# Altium integrated library Inductors-transformers.IntLib: 114 symbols (part 2 of 2)
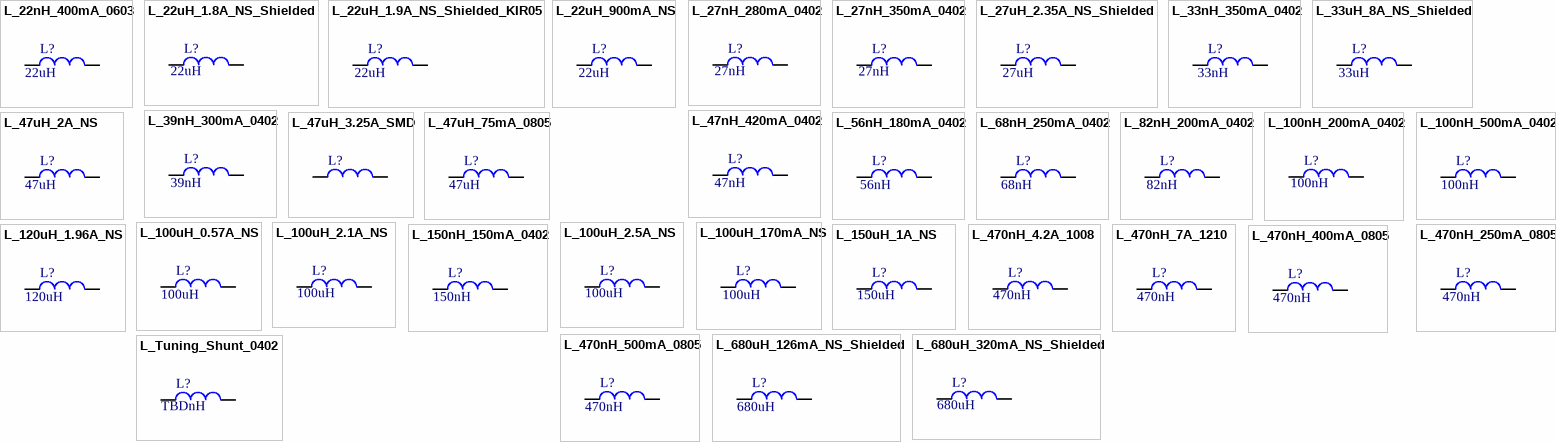
[diagram p3: symbols L_22nH_400mA_0603 to L_Tuning_Shunt_0402]

## L_47uH_75mA_0805
designator L?, comment value 47uH  (hidden comment: 47uH 75mA)
FIXED IND 47UH 75MA 1.7 OHM SMD; Manufacturer: Taiyo Yuden; Manufacturer Part Number: LBR2012T470K; Supplier 1: Digi-Key; Supplier Part Number 1: 587-2047-1-ND; Reel Stock: N/A; Last modified by: J.Jaramillo; Last modified date: 20240310; ComponentLink1Description: Digi-Key; ComponentLink1URL: https://www.digikey.com/products/en?keywords=587-2047-1-ND
footprint 0805 (2012 Metric / 20190225 / C-A.Serna.A)
pins: 1, 2

## L_56nH_180mA_0402
designator L?, comment value 56nH  (hidden comment: 56nH 180mA)
FIXED IND 56NH 180MA 1.8 OHM SMD; Manufacturer: TDK Corporation; Manufacturer Part Number: MHQ1005P56NJT000; Supplier 1: Digi-Key; Supplier Part Number 1: 445-MHQ1005P56NJT000CT-ND; Reel Stock: N/A; Last modified by: J.Jaramillo; Last modified date: 20240310; ComponentLink1Description: Digi-Key; ComponentLink1URL: https://www.digikey.com/en/products/detail/tdk-corporation/MHQ1005P56NJT000/5167831
footprint 0402 (1005 Metric / 20190225 / C-A.Serna.A)
footprint 0402_RF (1005 Metric / 20190225 / C-A.Serna.A)
pins: 1, 2

## L_68nH_250mA_0402
designator L?, comment 68nH
FIXED IND 68NH 250MA 920MOHM SMD; Manufacturer: Murata Electronics; Manufacturer Part Number: LQG15HZ68NH02D; Supplier 1: Digi-Key; Supplier Part Number 1: 490-15172-1-ND; Reel Stock: N/A; Last modified by: J.Jaramillo; Last modified date: 20240310; ComponentLink1Description: Digi-Key; ComponentLink1URL: https://www.digikey.com/en/products/detail/murata-electronics/LQG15HZ68NH02D/6798597; Value: 68nH
footprint 0402 (1005 Metric / 20190225 / C-A.Serna.A)
footprint 0402_RF (1005 Metric / 20190225 / C-A.Serna.A)
pins: 1, 2

## L_82nH_200mA_0402
designator L?, comment value 82nH  (hidden comment: 82nH 200mA)
FIXED IND 82NH 200MA 1.2 OHM SMD; Manufacturer: Murata Electronics North America; Manufacturer Part Number: LQG15HS82NJ02D; Supplier 1: Digi-Key; Supplier Part Number 1: 490-2634-1-ND; Reel Stock: N/A; Last modified by: J.Jaramillo; Last modified date: 20240310; ComponentLink1Description: Digi-Key; ComponentLink1URL: https://www.digikey.com/product-detail/en/murata-electronics-north-america/LQG15HS82NJ02D/490-2634-1-ND/662914
footprint 0402
footprint 0402_RF (0402 footprint for RF tracks with no overlay)
pins: 1, 2

## L_100nH_200mA_0402
designator L?, comment value 100nH  (hidden comment: 100nH 200mA)
FIXED IND 100NH 200MA 1.25 OHM; Manufacturer: Murata Electronics North America; Manufacturer Part Number: LQG15HSR10J02D; Supplier 1: Digi-key; Supplier Part Number 1: 490-2635-1-ND; Last modified by: J.Jaramillo; Last modified date: 20240310; ComponentLink1Description: Digi-key; ComponentLink1URL: https://www.digikey.com/products/en?keywords=490-2635-1-ND; Reel Stock: N/A
footprint 0402_RF
footprint 0402
pins: 1, 2

## L_100nH_500mA_0402
designator L?, comment value 100nH  (hidden comment: 100nH 500mA)
FIXED IND 100NH 500MA 1.25 OHM; Manufacturer: Murata Electronics; Manufacturer Part Number: LQG15HHR10J02D; Supplier 1: Digi-key; Supplier Part Number 1: 490-11670-1-ND; Last modified by: J.Jaramillo; Last modified date: 20240310; ComponentLink1Description: Digi-key; ComponentLink1URL: https://www.digikey.com/products/en?keywords=490-11670-1-ND; Reel Stock: N/A
footprint 0402_RF
footprint 0402
pins: 1, 2

## L_100uH_0.57A_NS
designator L?, comment value 100uH  (hidden comment: 100uH 0.57A)
FIXED IND 100UH 570MA 650MOHM SMD; Manufacturer: Würth Elektronik; Manufacturer Part Number: 74477420; Supplier 1: Digi-Key; Supplier Part Number 1: 732-1278-1-ND; Reel Stock: N/A; Last modified by: J.Jaramillo; Last modified date: 20240310; ComponentLink1Description: Digi-Key; ComponentLink1URL: https://www.digikey.com/en/products/detail/w%C3%BCrth-elektronik/74477420/1638683?s=N4IgTCBcDaIOwBYF0WADCAugXyA
footprint L_2SMD_5.8X5.2MM_NS (20220804/J-E.Pachon)
pins: 1, 2

## L_100uH_2.1A_NS
designator L?, comment value 100uH  (hidden comment: 100uH 2.1A)
FIXED IND 100UH 2.1A 150MOHM SMD; Manufacturer: Bourns Inc.; Manufacturer Part Number: SRR1280-101M; Supplier 1: Digi-Key; Supplier Part Number 1: SRR1280-101MCT-ND; Reel Stock: N/A; Last modified by: J.Jaramillo; Last modified date: 20240310; ComponentLink1Description: Digi-Key; ComponentLink1URL: https://www.digikey.com/en/products/detail/bourns-inc/SRR1280-101M/2127044
footprint L_2SMD_12.5X12.5mm_NS (NonStandard/ 20190226 / C-A.Serna.A)
pins: 1, 2

## L_100uH_2.5A_NS
designator L?, comment value 100uH  (hidden comment: 100uH 2.5A)
2.5A 100uH ±20% 3A SMD,8x8.5mm Power Inductors ROHS; Manufacturer: PROD Tech; Manufacturer Part Number: PSPMAA0805-101M-ANP; Supplier 1: LCSC; Supplier Part Number 1: C2962892; Reel Stock: N/A; Last modified by: J.Jaramillo; Last modified date: 20240310; ComponentLink1Description: Digi-Key; ComponentLink1URL: https://www.digikey.com/en/products/detail/bourns-inc/SRR1280-101M/2127044
footprint L_2SMD_8x8.5x5MM_NS (NS Inductor/20230724/L-A.Rodriguez)
pins: 1, 2

## L_100uH_170mA_NS
designator L?, comment value 100uH  (hidden comment: 100uH 170mA)
FIXED IND 100UH 170MA 9.27OHM SM; Manufacturer: COILCRAFT; Manufacturer Part Number: XPL2010-104MLC; Supplier 1: Digi-Key; Supplier Part Number 1: 2457-XPL2010-104MLC-ND; Reel Stock: N/A; Last modified by: J.Jaramillo; Last modified date: 20240310; ComponentLink1Description: Digi-Key; ComponentLink1URL: https://www.digikey.com/en/products/detail/coilcraft/XPL2010-104MLC/12714711?s=N4IgTCBcDaIBoAUAyYAMBGVBaTAWAskgMIgC6AvkA
footprint L_2SMD_2x1.9MM_NS (20211215 / E.Naranjo)
pins: 1, 2

## L_120uH_1.96A_NS
designator L?, comment value 120uH  (hidden comment: 120uH 1.96A)
FIXED IND 120UH 1.96A 250 MOHM; Manufacturer: Codaca; Manufacturer Part Number: SPRHS127-121M; Supplier 1: Poshton; Supplier Part Number 1: SPRHS127-121M; Reel Stock: N/A; Last modified by: J.Jaramillo; Last modified date: 20240310
footprint L_2SMD_12X12MM_NS_KIR07 (NonStandard/ 20191014/ C-A.Serna.A)
footprint L_2SMD_12X12MM_NS_IB_DUAL_FOOTPRINT (NonStandard/ 20200310/ V-A.Patino)
pins: 1, 2

## L_150nH_150mA_0402
designator L?, comment value 150nH  (hidden comment: 150nH 150mA)
FIXED IND 150NH 150MA 2.99 OHM; Manufacturer: Murata Electronics; Manufacturer Part Number: LQG15HSR15H02D; Supplier 1: Digi-key; Supplier Part Number 1: 490-15139-1-ND; Last modified by: J.Jaramillo; Last modified date: 20240310; ComponentLink1Description: Digi-key; ComponentLink1URL: https://www.digikey.com/products/en?keywords=490-15139-1-ND; Reel Stock: N/A
footprint 0402_RF
footprint 0402
pins: 1, 2

## L_150uH_1A_NS
designator L?, comment value 150uH  (hidden comment: 150uH 1A)
FIXED IND 150UH 1A 235 MOHM SMD; Manufacturer: Bourns Inc.; Manufacturer Part Number: SRU1048-151Y; Supplier 1: Digi-Key; Supplier Part Number 1: SRU1048-151YCT-ND; Reel Stock: N/A; Last modified by: J.Jaramillo; Last modified date: 20240310; ComponentLink1Description: Digi-Key; ComponentLink1URL: https://www.digikey.com/en/products/detail/bourns-inc/SRU1048-151Y/2562479
footprint L_2SMD_10x10mm_NS (NonStandard / 20230426/ A-F. Romo)
pins: 1, 2

## L_470nH_4.2A_1008
designator L?, comment value 470nH  (hidden comment: 470nH 4.2A)
FIXED IND 470NH 4.2A 29MOHM SMD; Manufacturer: Samsung Electro-Mechanics; Manufacturer Part Number: CIGT252010LMR47MNE; Supplier 1: Digi-Key; Supplier Part Number 1: 1276-6944-1-ND; Reel Stock: N/A; Last modified by: J.Jaramillo; Last modified date: 20240310; ComponentLink1Description: Digi-Key; ComponentLink1URL: https://www.digikey.com/en/products/detail/samsung-electro-mechanics/CIGT252010LMR47MNE/7041266?s=N4IgTCBcDaIMIEkDiAVMBWMAGAjFgMgLIBKALAOyEByAoiALoC%2BQA
footprint 1008 (2520 Metric / 20190225 / C-A.Serna.A)
pins: 1, 2

## L_470nH_7A_1210
designator L?, comment value 470nH  (hidden comment: 470nH 7A)
IND,3.2X2.5X1MM,0.47UH20%,7A,SHD; Manufacturer: Bourns Inc.; Manufacturer Part Number: SRP3212-R47M; Supplier 1: Digi-Key; Supplier Part Number 1: 118-SRP3212-R47MCT-ND; Reel Stock: N/A; Last modified by: J.Jaramillo; Last modified date: 20240310; ComponentLink1Description: Digi-Key; ComponentLink1URL: https://www.digikey.com/en/products/detail/bourns-inc/SRP3212-R47M/16394424
footprint 1210 (/20220511/V-A.Patino)
pins: 1, 2

## L_470nH_250mA_0805
designator L?, comment value 470nH  (hidden comment: 470nH 250mA)
Wire Wound Chip Ceramic Inductor – SDWL-C Series; Manufacturer: Sunlord; Manufacturer Part Number: SDWL2012CR47JSTF; Reel Stock: N/A; Last modified by: J.Jaramillo; Last modified date: 20240310; Supplier 1: LCSC; Supplier Part Number 1: C98212; ComponentLink1Description: LCSC; ComponentLink1URL: https://lcsc.com/product-detail/Inductors-SMD_Sunlord-SDWL2012CR47JSTF_C98212.html
footprint 0805
pins: 1, 2

## L_470nH_400mA_0805
designator L?, comment value 470nH  (hidden comment: 470nH 400mA)
FIXED IND 470NH 400MA 320 MOHM; Manufacturer: Taiyo Yuden; Manufacturer Part Number: CK2125R47M-T; Reel Stock: N/A; Last modified by: J.Jaramillo; Last modified date: 20240310; Supplier 1: Digi-Key; Supplier Part Number 1: 587-1687-1-ND; ComponentLink1Description: Digi-Key; ComponentLink1URL: https://www.digikey.com/en/products/detail/taiyo-yuden/CK2125R47M-T/1007961?s=N4IgTCBcDaIKwA4DsBaAjANmelA5AIiALoC%2BQA
footprint 0805
pins: 1, 2

## L_470nH_500mA_0805
designator L?, comment value 470nH  (hidden comment: 470nH 500mA)
FIXED IND 470NH 500MA 400 MOHM; Manufacturer: Guangdong Fenghua Advanced Technology Holding Co Ltd; Manufacturer Part Number: FHW0805UFR47JST; Supplier 1: LCSC; Supplier Part Number 1: C393986; Reel Stock: N/A; Last modified by: J.Jaramillo; Last modified date: 20240310; ComponentLink1Description: LCSC; ComponentLink1URL: https://lcsc.com/product-detail/Inductors-SMD_FH-Guangdong-Fenghua-Advanced-Tech-FHW0805UFR47JST_C393986.html
footprint 0805 (2012 Metric / 20190225 / C-A.Serna.A)
pins: 1, 2

## L_680uH_126mA_NS_Shielded
designator L?, comment value 680uH  (hidden comment: 680uH 126mA)
FIXED IND 680UH 126MA 3.8 OHM; Manufacturer: Coilcraft; Manufacturer Part Number: LPS5030-684MRB; Supplier 1: Mouser; Supplier Part Number 1: 994-LPS5030-684MRB; Reel Stock: N/A; Last modified by: J.Jaramillo; Last modified date: 20240310; ComponentLink1Description: Mouser; ComponentLink1URL: https://co.mouser.com/ProductDetail/Coilcraft/LPS5030-684MRB/?qs=QQJxVsr8EGYAGYXYNJ6Iig%3D%3D
footprint L_2SMD_4.9X4.9mm_NS_2 (/20210217/J-E.Pachon)
pins: 1, 2

## L_680uH_320mA_NS_Shielded
designator L?, comment value 680uH  (hidden comment: 680uH 320mA)
FIXED IND 680UH 320MA 2.95OHM SM; Manufacturer: TDK Corporation; Manufacturer Part Number: VLS6045EX-681M; Supplier 1: Digi-Key; Supplier Part Number 1: 445-180928-1-ND; Reel Stock: N/A; Last modified by: J.Jaramillo; Last modified date: 20240310; ComponentLink1Description: Digi-Key; ComponentLink1URL: https://www.digikey.com/en/products/detail/tdk-corporation/VLS6045EX-681M/9607852
footprint L_2SMD_6x6x4.5MM_NS (20190909 /C-D Viveros)
pins: 1, 2

## L_Tuning_Shunt_0402
designator L?, comment value TBDnH  (hidden comment: Ind_Tuning_Shunt_0402)
Inductor symbol for tuning network; Manufacturer: TBD; Manufacturer Part Number: TBD; Supplier 1: TBD; Supplier Part Number 1: TBD; Last modified by: J.Jaramillo; Last modified date: 20240310; Reel Stock: N/A
footprint 0402_RF
footprint 0402
pins: 1, 2